# EAGLE library part TEST_MATE_TYPE_2 (library test-mate)
TestMate Type 2 UUT footprint
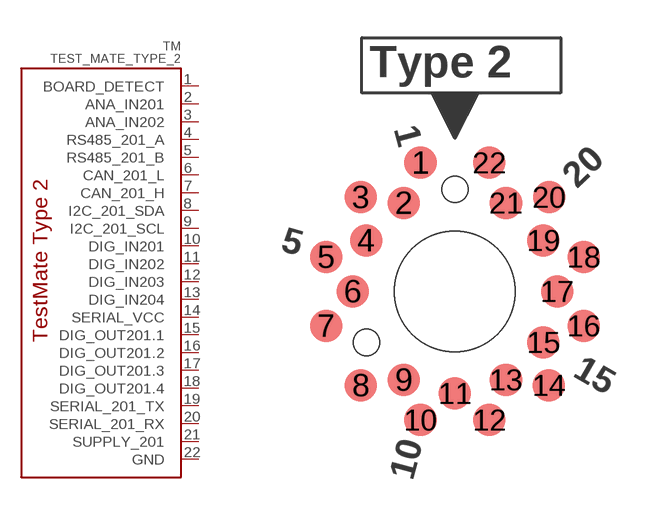
[diagram p1: symbol with the pads of TEST_MATE_TYPE_2; footprint TEST_MATE_TYPE_2]

Designator prefix TM

## TEST_MATE_TYPE_2  [TEST_MATE_TYPE_2]
1  BOARD_DETECT
2  ANA_IN201
3  ANA_IN202
4  RS485_201_A
5  RS485_201_B
6  CAN_201_L
7  CAN_201_H
8  I2C_201_SDA
9  I2C_201_SCL
10  DIG_IN201
11  DIG_IN202
12  DIG_IN203
13  DIG_IN204
14  SERIAL_VCC
15  DIG_OUT201.1
16  DIG_OUT201.2
17  DIG_OUT201.3
18  DIG_OUT201.4
19  SERIAL_201_TX
20  SERIAL_201_RX
21  SUPPLY_201
22  GND

## Footprint TEST_MATE_TYPE_2 (pad centres in mm)
smd 1.3 x 1.3: 1 -1.37,5.12; 2 -2.03,3.52; 3 -3.75,3.75; 4 -3.52,2.03; 5 -5.12,1.37; 6 -4.06,0; 7 -5.12,-1.37; 8 -3.74,-3.74; 9 -2.03,-3.52; 10 -1.37,-5.12; 11 0,-4.06; 12 1.37,-5.12; 13 2.03,-3.52; 14 3.74,-3.74; 15 3.52,-2.03; 16 5.12,-1.37; 17 4.06,0; 18 5.12,1.37; 19 3.52,2.03; 20 3.75,3.75; 21 2.03,3.52; 22 1.37,5.12
hole 1.05 at -3.52,-2.03
hole 1.05 at 0,4.06
hole 4.8 at 0,0